# EAGLE library part 229-24VA (library trafo-hammond)
TOROID TRANSFORMER
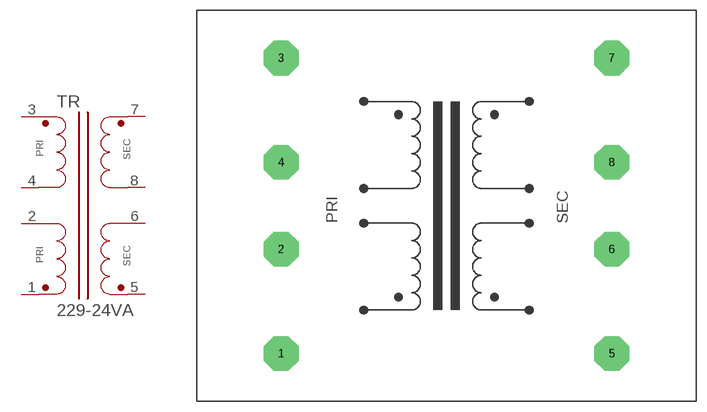
[diagram p1: symbol with the pads of 229-24VA; footprint 229-24VA]

Designator prefix TR

## 229-24VA  [229-24VA]
1  1  pas
2  2  pas
3  3  pas
4  4  pas
5  5  pas
6  6  pas
7  7  pas
8  8  pas

## Footprint 229-24VA (pad centres in mm)
POWER TRANSFORMER W=2.25, L=2.87 inch PC Card Spacing 1.50"
drill 1.422 pad 5.08 octagon: 1 -24.13,-21.59; 2 -24.13,-6.35; 3 -24.13,21.59; 4 -24.13,6.35; 5 24.13,-21.59; 6 24.13,-6.35; 7 24.13,21.59; 8 24.13,6.35